# Altium schematic symbol library Schlib1.SchLib: 16 symbols
Pins are listed as number, name and electrical type; pins without a type are passive.

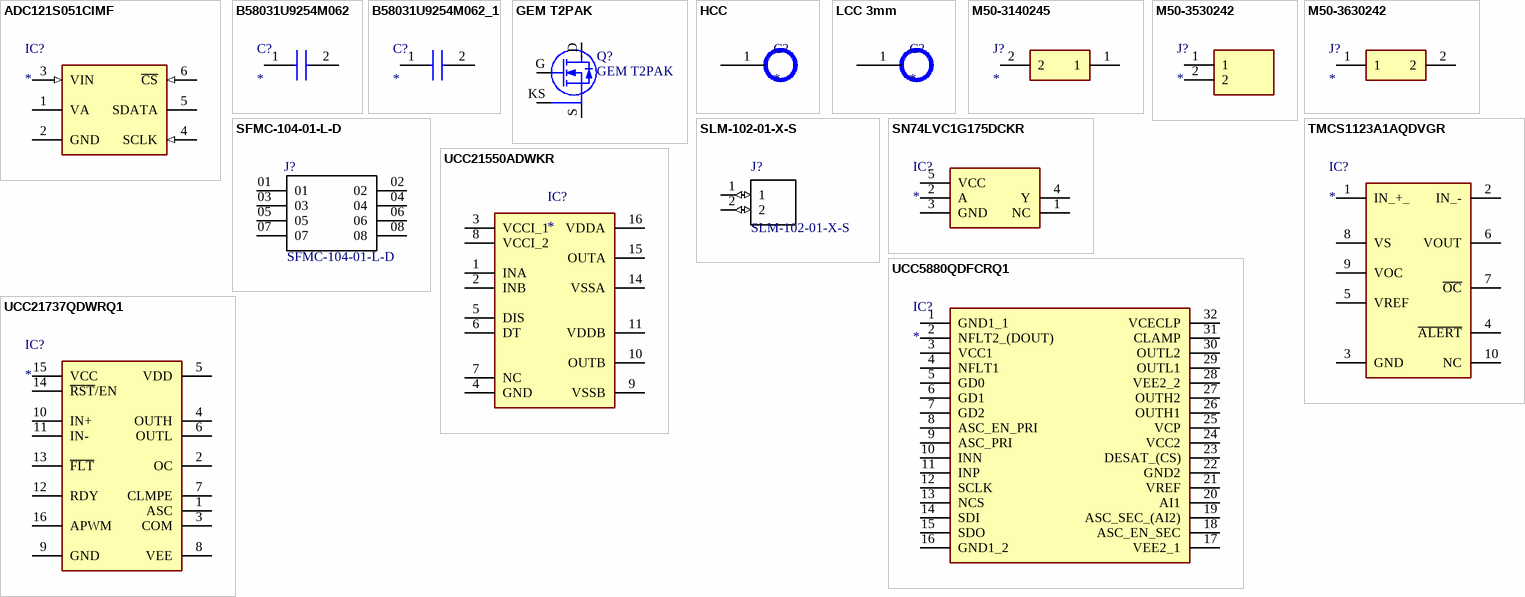
[diagram p0: symbols ADC121S051CIMF to UCC21737QDWRQ1]

## ADC121S051CIMF
designator IC?
Integrated Circuit; Manufacturer_Name: Texas Instruments; Manufacturer_Part_Number: ADC121S051CIMF; Datasheet Link: http://www.ti.com/lit/ds/symlink/adc121s051.pdf; Height: 1.45mm; Mouser Part Number: 926-ADC121S051CIMF; Mouser Price/Stock: https://www.mouser.co.uk/ProductDetail/Texas-Instruments/ADC121S051CIMF?qs=7X5t%252BdzoRHAwb4xOcw870w%3D%3D
footprint SOT95P280X145-6N
pins: 1 VA, 2 GND (power), 3 VIN (in), 4 SCLK (in), 5 SDATA, 6 ~{CS} (in)

## B58031U9254M062
designator C?
Capacitor; Manufacturer_Name: TDK; Manufacturer_Part_Number: B58031U9254M062; Datasheet Link: https://product.tdk.com/system/files/dam/doc/product/capacitor/ceramic/ceralink/data_sheet/20/10/ds/b58031_lp.pdf; Height: 4.5mm; Mouser Part Number: 871-B58031U9254M062; Mouser Price/Stock: https://www.mouser.co.uk/ProductDetail/EPCOS-TDK/B58031U9254M062?qs=Mv7BduZupUir5egwM6Ifng%3D%3D; Arrow Part Number: B58031U9254M062; Arrow Price/Stock: https://www.arrow.com/en/products/b58031u9254m062/tdk?region=europe
footprint B58031U9254M062
pins: 1, 2

## B58031U9254M062_1
designator C?
Capacitor; Manufacturer_Name: TDK; Manufacturer_Part_Number: B58031U9254M062; Datasheet Link: https://product.tdk.com/system/files/dam/doc/product/capacitor/ceramic/ceralink/data_sheet/20/10/ds/b58031_lp.pdf; Height: 4.5mm; Mouser Part Number: 871-B58031U9254M062; Mouser Price/Stock: https://www.mouser.co.uk/ProductDetail/EPCOS-TDK/B58031U9254M062?qs=Mv7BduZupUir5egwM6Ifng%3D%3D; Arrow Part Number: B58031U9254M062; Arrow Price/Stock: https://www.arrow.com/en/products/b58031u9254m062/tdk?region=europe
footprint B58031U9254M062
pins: 1, 2

## GEM T2PAK
designator Q?
footprint GEM T2PAK H3.6
pins: D, G, KS, S

## HCC
designator C?
footprint 6mm Pad
pins: 1

## LCC 3mm
designator C?
footprint PAD 3MM
pins: 1

## M50-3140245
designator J?
Connector; Manufacturer_Name: Harwin; Manufacturer_Part_Number: M50-3140245; Datasheet Link: https://componentsearchengine.com/Datasheets/1/M50-3140245.pdf; Height: 3.6mm; Mouser Part Number: 855-M50-3140245; Mouser Price/Stock: https://www.mouser.co.uk/ProductDetail/Harwin/M50-3140245?qs=%252BdQmOuGyFcEdctCQD%252BcFMQ%3D%3D
footprint M503140245
pins: 1, 2

## M50-3530242
designator J?
Connector; Manufacturer_Name: Harwin; Manufacturer_Part_Number: M50-3530242; Datasheet Link: https://cdn.harwin.com/pdfs/M50-353.pdf; Height: 4.2mm; Mouser Part Number: 855-M50-3530242; Mouser Price/Stock: https://www.mouser.co.uk/ProductDetail/Harwin/M50-3530242?qs=%252BdQmOuGyFcFfqfwYQe%2FxZw%3D%3D
footprint HDRV2W40P0X127_1X2_254X210X420P
pins: 1, 2

## M50-3630242
designator J?
Connector; Manufacturer_Name: Harwin; Manufacturer_Part_Number: M50-3630242; Datasheet Link: https://cdn.harwin.com/pdfs/M50-363.pdf; Height: 4.95mm; Mouser Part Number: 855-M50-3630242; Mouser Price/Stock: https://www.mouser.co.uk/ProductDetail/Harwin/M50-3630242?qs=%252BdQmOuGyFcGm5KVXDM4yoQ%3D%3D
footprint M503630242
pins: 1, 2

## SFMC-104-01-L-D
designator J?
Value: *
footprint *SAMTEC_SFMC-104-01-L-D_SFMC-104-01-L-D(Primary)
pins: 01, 02, 03, 04, 05, 06, 07, 08

## SLM-102-01-X-S
designator J?
Value: *
footprint *SLM-102-01-X-S
pins: 1 (io), 2 (io)

## SN74LVC1G175DCKR
designator IC?
Integrated Circuit; Manufacturer_Name: Texas Instruments; Manufacturer_Part_Number: SN74LVC1G175DCKR; Datasheet Link: http://www.ti.com/lit/gpn/sn74lvc1g175; Height: 1.1mm; Mouser Part Number: 595-SN74LVC1G175DCKR; Mouser Price/Stock: https://www.mouser.co.uk/ProductDetail/Texas-Instruments/SN74LVC1G175DCKR?qs=pajgIaoyDUjI2BH1x6CpqQ%3D%3D; Arrow Part Number: SN74LVC1G175DCKR; Arrow Price/Stock: https://www.arrow.com/en/products/sn74lvc1g175dckr/texas-instruments?region=nac
footprint SOP65P210X110-6N
pins: 1 NC, 2 A, 3 GND, 4 Y, 5 VCC

## TMCS1123A1AQDVGR
designator IC?
Integrated Circuit; Manufacturer_Name: Texas Instruments; Manufacturer_Part_Number: TMCS1123A1AQDVGR; Datasheet Link: https://www.ti.com/lit/ds/symlink/tmcs1123.pdf?ts=1707973672803&ref_url=https%253A%252F%252Fwww.google.com%252F; Height: 2.65mm; Mouser Part Number: 595-TMCS1123A1AQDVGR; Mouser Price/Stock: https://www.mouser.co.uk/ProductDetail/Texas-Instruments/TMCS1123A1AQDVGR?qs=mELouGlnn3ezMP2QpzrvaA%3D%3D; Arrow Part Number: TMCS1123A1AQDVGR; Arrow Price/Stock: https://www.arrow.com/en/products/tmcs1123a1aqdvgr/texas-instruments?region=nac
footprint TMCS1126A8AQDVGRQ1
pins: 1 IN_+_, 2 IN_-, 3 GND, 4 ~{ALERT}, 5 VREF, 6 VOUT, 7 ~{OC}, 8 VS, 9 VOC, 10 NC

## UCC5880QDFCRQ1
designator IC?
Integrated Circuit; Manufacturer_Name: Texas Instruments; Manufacturer_Part_Number: UCC5880QDFCRQ1; Datasheet Link: https://www.ti.com/lit/ds/symlink/ucc5880-q1.pdf?ts=1715440637057&ref_url=https%253A%252F%252Fwww.google.com%252F; Height: 2.65mm; Mouser Part Number: 595-UCC5880QDFCRQ1; Mouser Price/Stock: https://www.mouser.co.uk/ProductDetail/Texas-Instruments/UCC5880QDFCRQ1?qs=jRuttqqUwMTjFtikQ1zamg%3D%3D; Arrow Part Number: UCC5880QDFCRQ1; Arrow Price/Stock: https://www.arrow.com/en/products/ucc5880qdfcrq1/texas-instruments?utm_currency=USD&region=nac
footprint SOP60P1030X265-32N
pins: 1 GND1_1, 2 NFLT2_(DOUT), 3 VCC1, 4 NFLT1, 5 GD0, 6 GD1, 7 GD2, 8 ASC_EN_PRI, 9 ASC_PRI, 10 INN, 11 INP, 12 SCLK, 13 NCS, 14 SDI, 15 SDO, 16 GND1_2, 17 VEE2_1, 18 ASC_EN_SEC, 19 ASC_SEC_(AI2), 20 AI1, 21 VREF, 22 GND2, 23 DESAT_(CS), 24 VCC2, 25 VCP, 26 OUTH1, 27 OUTH2, 28 VEE2_2, 29 OUTL1, 30 OUTL2, 31 CLAMP, 32 VCECLP

## UCC21550ADWKR
designator IC?
Integrated Circuit; Manufacturer_Name: Texas Instruments; Manufacturer_Part_Number: UCC21550ADWKR; Datasheet Link: https://www.ti.com/lit/gpn/UCC21550; Height: 2.65mm; Mouser Part Number: 595-UCC21550ADWKR; Mouser Price/Stock: https://www.mouser.co.uk/ProductDetail/Texas-Instruments/UCC21550ADWKR?qs=IKkN%2F947nfBAXILs21qR6A%3D%3D; Arrow Part Number: UCC21550ADWKR; Arrow Price/Stock: https://www.arrow.com/en/products/ucc21550adwkr/texas-instruments?utm_currency=USD&region=nac
footprint UCC21550ADWKR
pins: 1 INA, 2 INB, 3 VCCI_1, 4 GND, 5 DIS, 6 DT, 7 NC, 8 VCCI_2, 9 VSSB, 10 OUTB, 11 VDDB, 14 VSSA, 15 OUTA, 16 VDDA

## UCC21737QDWRQ1
designator IC?
Integrated Circuit; Manufacturer_Name: Texas Instruments; Manufacturer_Part_Number: UCC21737QDWRQ1; Datasheet Link: https://www.ti.com/lit/ds/symlink/ucc21737-q1.pdf?ts=1680855789870&ref_url=https%253A%252F%252Fwww.ti.com%252Fpower-management%252Fgate-drivers%252Fisolated-gate-drivers%252Fproducts.html; Height: 2.65mm; Mouser Part Number: 595-UCC21737QDWRQ1; Mouser Price/Stock: https://www.mouser.co.uk/ProductDetail/Texas-Instruments/UCC21737QDWRQ1?qs=By6Nw2ByBD24BqkOFEZfaA%3D%3D
footprint SOIC127P1030X265-16N
pins: 1 ASC, 2 OC, 3 COM, 4 OUTH, 5 VDD, 6 OUTL, 7 CLMPE, 8 VEE, 9 GND, 10 IN+, 11 IN-, 12 RDY, 13 ~{FLT}, 14 ~{RST}/EN, 15 VCC, 16 APWM